# EAGLE library part PMOD12 (library xess)
12-Pin PMOD Socket/Header 8 data I/O pins, 2 GND, 2 PWR.
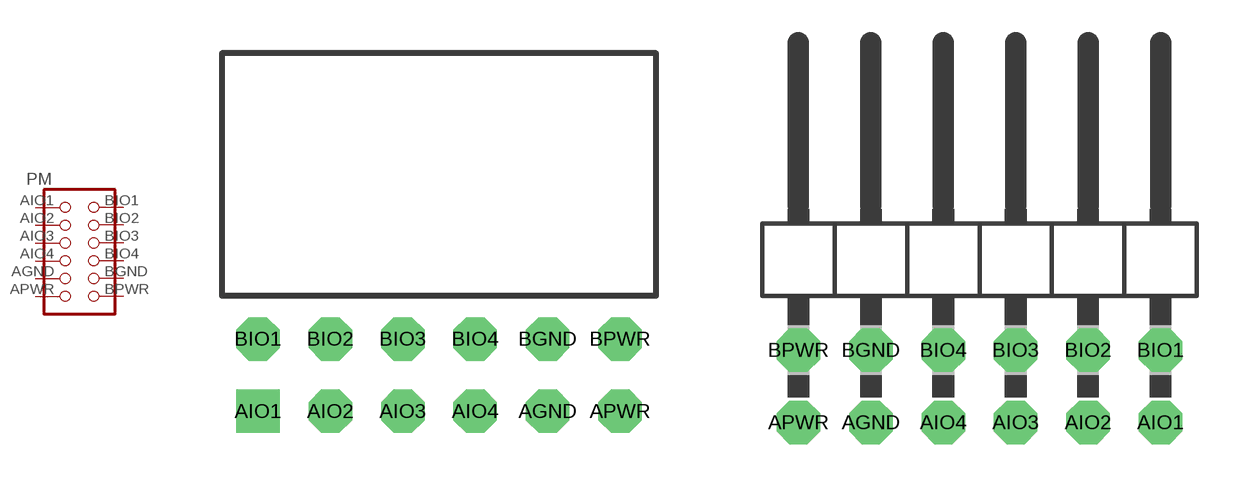
[diagram p141: symbol with the pads of PMOD12-SOCKET; footprints PMOD12-SOCKET, PMOD12-HEADER]

Designator prefix PM

## PMOD12SOCKET (DIGIKEY#: S5520-ND; MANF: Ho Chien; MANF#: 2553-2X6G)  [PMOD12-SOCKET]
AGND  AGND  pas
AIO1  AIO1  pas
AIO2  AIO2  pas
AIO3  AIO3  pas
AIO4  AIO4  pas
APWR  APWR  pas
BGND  BGND  pas
BIO1  BIO1  pas
BIO2  BIO2  pas
BIO3  BIO3  pas
BIO4  BIO4  pas
BPWR  BPWR  pas

## PMOD12HEADER  [PMOD12-HEADER]
Pads as for PMOD12-SOCKET

## Footprint PMOD12-SOCKET (pad centres in mm)
drill 1.016 octagon: AGND 3.81,-1.27; AIO2 -3.81,-1.27; AIO3 -1.27,-1.27; AIO4 1.27,-1.27; APWR 6.35,-1.27; BGND 3.81,1.27; BIO1 -6.35,1.27; BIO2 -3.81,1.27; BIO3 -1.27,1.27; BIO4 1.27,1.27; BPWR 6.35,1.27
drill 1.016 square: AIO1 -6.35,-1.27

## Footprint PMOD12-HEADER (pad centres in mm)
PIN HEADER
drill 1.016 octagon: AGND -3.81,-6.35; AIO1 6.35,-6.35; AIO2 3.81,-6.35; AIO3 1.27,-6.35; AIO4 -1.27,-6.35; APWR -6.35,-6.35; BGND -3.81,-3.81; BIO1 6.35,-3.81; BIO2 3.81,-3.81; BIO3 1.27,-3.81; BIO4 -1.27,-3.81; BPWR -6.35,-3.81